# Altium schematic symbol library LED-ARGB-6028_3GND.SchLib: 1 symbol
Pins are listed as number, name and electrical type; pins without a type are passive.

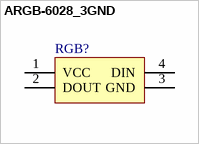
[diagram p0: symbol ARGB-6028_3GND]

## ARGB-6028_3GND
designator RGB?
pins: 1 VCC, 2 DOUT, 3 GND, 4 DIN